# Altium schematic symbol library MCU_Microchip_SAME.SchLib: 16 symbols
Pins are listed as number, name and electrical type; pins without a type are passive.

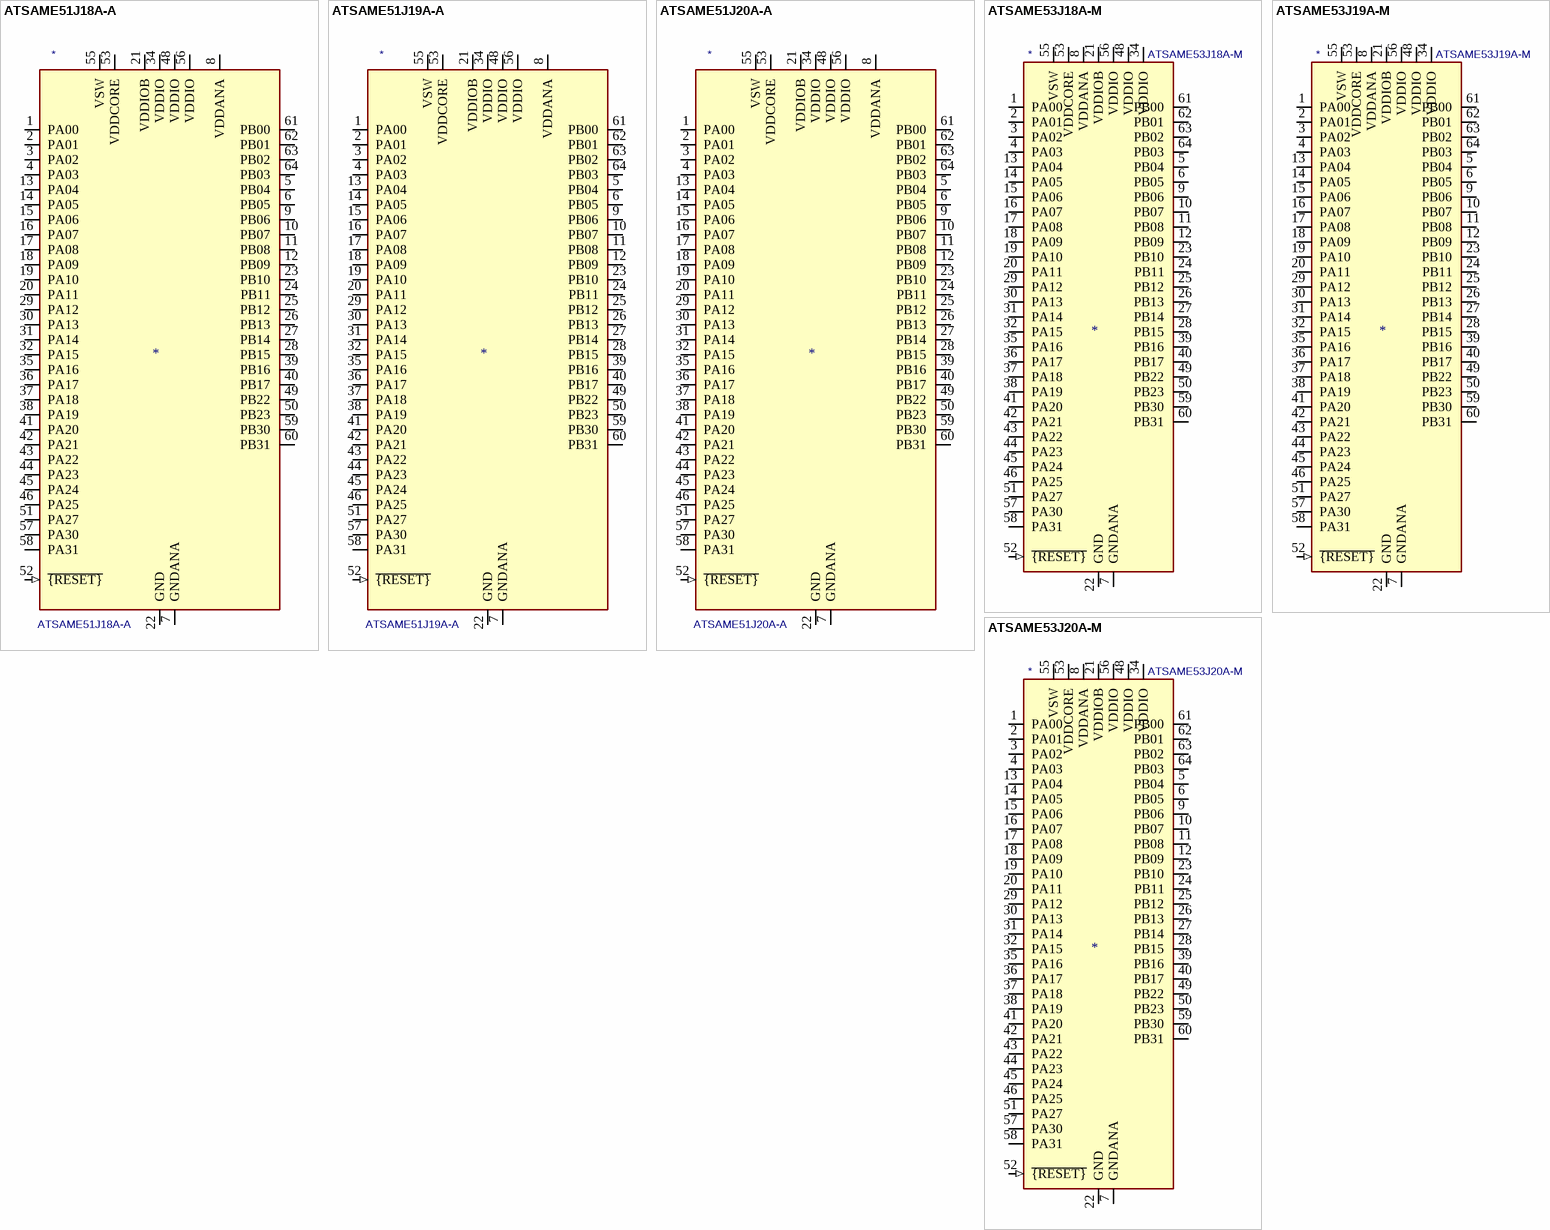
[diagram p0: symbols ATSAME51J18A-A to ATSAME53J20A-M]

## ATSAME51J18A-A
designator *  value ATSAME51J18A-A
ki_keywords: 32-bit ARM Cortex-M4F MCU Microcontroller; ki_description: SAM E51 Microchip SMART ARM Cortex-M4F-based MCU, 256K Flash, 128K SRAM, TQFP-64; ki_fp_filters: TQFP*10x10mm*P0.5mm*; Footprint: Package_QFP:TQFP-64_10x10mm_P0.5mm; Supplier: http://ww1.microchip.com/downloads/en/DeviceDoc/60001507E.pdf
footprint TQFP-64_10x10mm_P0.5mm
pins: 1 PA00 (io), 2 PA01 (io), 3 PA02 (io), 4 PA03 (io), 5 PB04 (io), 6 PB05 (io), 7 GNDANA (power), 8 VDDANA (power), 9 PB06 (io), 10 PB07 (io), 11 PB08 (io), 12 PB09 (io), 13 PA04 (io), 14 PA05 (io), 15 PA06 (io), 16 PA07 (io), 17 PA08 (io), 18 PA09 (io), 19 PA10 (io), 20 PA11 (io), 21 VDDIOB (power), 22 GND (power), 23 PB10 (io), 24 PB11 (io), 25 PB12 (io), 26 PB13 (io), 27 PB14 (io), 28 PB15 (io), 29 PA12 (io), 30 PA13 (io), 31 PA14 (io), 32 PA15 (io), 33 GND hidden, 34 VDDIO (power), 35 PA16 (io), 36 PA17 (io), 37 PA18 (io), 38 PA19 (io), 39 PB16 (io), 40 PB17 (io), 41 PA20 (io), 42 PA21 (io), 43 PA22 (io), 44 PA23 (io), 45 PA24 (io), 46 PA25 (io), 47 GND hidden, 48 VDDIO (power), 49 PB22 (io), 50 PB23 (io), 51 PA27 (io), 52 ~{{RESET}} (in), 53 VDDCORE (power), 54 GND hidden, 55 VSW (power), 56 VDDIO (power), 57 PA30 (io), 58 PA31 (io), 59 PB30 (io), 60 PB31 (io), 61 PB00 (io), 62 PB01 (io), 63 PB02 (io), 64 PB03 (io)

## ATSAME51J19A-A
designator *  value ATSAME51J19A-A
ki_keywords: 32-bit ARM Cortex-M4F MCU Microcontroller; ki_description: SAM E51 Microchip SMART ARM Cortex-M4F-based MCU, 512K Flash, 192K SRAM, TQFP-64; ki_fp_filters: TQFP*10x10mm*P0.5mm*; Footprint: Package_QFP:TQFP-64_10x10mm_P0.5mm; Supplier: http://ww1.microchip.com/downloads/en/DeviceDoc/60001507E.pdf
footprint TQFP-64_10x10mm_P0.5mm
pins: 1 PA00 (io), 2 PA01 (io), 3 PA02 (io), 4 PA03 (io), 5 PB04 (io), 6 PB05 (io), 7 GNDANA (power), 8 VDDANA (power), 9 PB06 (io), 10 PB07 (io), 11 PB08 (io), 12 PB09 (io), 13 PA04 (io), 14 PA05 (io), 15 PA06 (io), 16 PA07 (io), 17 PA08 (io), 18 PA09 (io), 19 PA10 (io), 20 PA11 (io), 21 VDDIOB (power), 22 GND (power), 23 PB10 (io), 24 PB11 (io), 25 PB12 (io), 26 PB13 (io), 27 PB14 (io), 28 PB15 (io), 29 PA12 (io), 30 PA13 (io), 31 PA14 (io), 32 PA15 (io), 33 GND hidden, 34 VDDIO (power), 35 PA16 (io), 36 PA17 (io), 37 PA18 (io), 38 PA19 (io), 39 PB16 (io), 40 PB17 (io), 41 PA20 (io), 42 PA21 (io), 43 PA22 (io), 44 PA23 (io), 45 PA24 (io), 46 PA25 (io), 47 GND hidden, 48 VDDIO (power), 49 PB22 (io), 50 PB23 (io), 51 PA27 (io), 52 ~{{RESET}} (in), 53 VDDCORE (power), 54 GND hidden, 55 VSW (power), 56 VDDIO (power), 57 PA30 (io), 58 PA31 (io), 59 PB30 (io), 60 PB31 (io), 61 PB00 (io), 62 PB01 (io), 63 PB02 (io), 64 PB03 (io)

## ATSAME51J20A-A
designator *  value ATSAME51J20A-A
ki_keywords: 32-bit ARM Cortex-M4F MCU Microcontroller; ki_description: SAM E51 Microchip SMART ARM Cortex-M4F-based MCU, 1024K Flash, 256K SRAM, TQFP-64; ki_fp_filters: TQFP*10x10mm*P0.5mm*; Footprint: Package_QFP:TQFP-64_10x10mm_P0.5mm; Supplier: http://ww1.microchip.com/downloads/en/DeviceDoc/60001507E.pdf
footprint TQFP-64_10x10mm_P0.5mm
pins: 1 PA00 (io), 2 PA01 (io), 3 PA02 (io), 4 PA03 (io), 5 PB04 (io), 6 PB05 (io), 7 GNDANA (power), 8 VDDANA (power), 9 PB06 (io), 10 PB07 (io), 11 PB08 (io), 12 PB09 (io), 13 PA04 (io), 14 PA05 (io), 15 PA06 (io), 16 PA07 (io), 17 PA08 (io), 18 PA09 (io), 19 PA10 (io), 20 PA11 (io), 21 VDDIOB (power), 22 GND (power), 23 PB10 (io), 24 PB11 (io), 25 PB12 (io), 26 PB13 (io), 27 PB14 (io), 28 PB15 (io), 29 PA12 (io), 30 PA13 (io), 31 PA14 (io), 32 PA15 (io), 33 GND hidden, 34 VDDIO (power), 35 PA16 (io), 36 PA17 (io), 37 PA18 (io), 38 PA19 (io), 39 PB16 (io), 40 PB17 (io), 41 PA20 (io), 42 PA21 (io), 43 PA22 (io), 44 PA23 (io), 45 PA24 (io), 46 PA25 (io), 47 GND hidden, 48 VDDIO (power), 49 PB22 (io), 50 PB23 (io), 51 PA27 (io), 52 ~{{RESET}} (in), 53 VDDCORE (power), 54 GND hidden, 55 VSW (power), 56 VDDIO (power), 57 PA30 (io), 58 PA31 (io), 59 PB30 (io), 60 PB31 (io), 61 PB00 (io), 62 PB01 (io), 63 PB02 (io), 64 PB03 (io)

## ATSAME53J18A-M
designator *  value ATSAME53J18A-M
ki_keywords: 32-bit ARM Cortex-M4F MCU Microcontroller; ki_description: SAM E53 Microchip SMART ARM Cortex-M4F based MCU, 256K Flash, 128K SRAM, QFN-64; ki_fp_filters: QFN*1EP*9x9mm*P0.5mm*; Footprint: Package_DFN_QFN:QFN-64-1EP_9x9mm_P0.5mm_EP4.7x4.7mm; Supplier: http://ww1.microchip.com/downloads/en/DeviceDoc/60001507E.pdf
footprint QFN-64-1EP_9x9mm_P0.5mm_EP4.7x4.7mm
pins: 1 PA00 (io), 2 PA01 (io), 3 PA02 (io), 4 PA03 (io), 5 PB04 (io), 6 PB05 (io), 7 GNDANA (power), 8 VDDANA (power), 9 PB06 (io), 10 PB07 (io), 11 PB08 (io), 12 PB09 (io), 13 PA04 (io), 14 PA05 (io), 15 PA06 (io), 16 PA07 (io), 17 PA08 (io), 18 PA09 (io), 19 PA10 (io), 20 PA11 (io), 21 VDDIOB (power), 22 GND (power), 23 PB10 (io), 24 PB11 (io), 25 PB12 (io), 26 PB13 (io), 27 PB14 (io), 28 PB15 (io), 29 PA12 (io), 30 PA13 (io), 31 PA14 (io), 32 PA15 (io), 33 GND hidden, 34 VDDIO (power), 35 PA16 (io), 36 PA17 (io), 37 PA18 (io), 38 PA19 (io), 39 PB16 (io), 40 PB17 (io), 41 PA20 (io), 42 PA21 (io), 43 PA22 (io), 44 PA23 (io), 45 PA24 (io), 46 PA25 (io), 47 GND hidden, 48 VDDIO (power), 49 PB22 (io), 50 PB23 (io), 51 PA27 (io), 52 ~{{RESET}} (in), 53 VDDCORE (power), 54 GND hidden, 55 VSW (power), 56 VDDIO (power), 57 PA30 (io), 58 PA31 (io), 59 PB30 (io), 60 PB31 (io), 61 PB00 (io), 62 PB01 (io), 63 PB02 (io), 64 PB03 (io), 65 GND hidden

## ATSAME53J19A-M
designator *  value ATSAME53J19A-M
ki_keywords: 32-bit ARM Cortex-M4F MCU Microcontroller; ki_description: SAM E53 Microchip SMART ARM Cortex-M4F based MCU, 512K Flash, 128K SRAM, QFN-64; ki_fp_filters: QFN*1EP*9x9mm*P0.5mm*; Footprint: Package_DFN_QFN:QFN-64-1EP_9x9mm_P0.5mm_EP4.7x4.7mm; Supplier: http://ww1.microchip.com/downloads/en/DeviceDoc/60001507E.pdf
footprint QFN-64-1EP_9x9mm_P0.5mm_EP4.7x4.7mm
pins: 1 PA00 (io), 2 PA01 (io), 3 PA02 (io), 4 PA03 (io), 5 PB04 (io), 6 PB05 (io), 7 GNDANA (power), 8 VDDANA (power), 9 PB06 (io), 10 PB07 (io), 11 PB08 (io), 12 PB09 (io), 13 PA04 (io), 14 PA05 (io), 15 PA06 (io), 16 PA07 (io), 17 PA08 (io), 18 PA09 (io), 19 PA10 (io), 20 PA11 (io), 21 VDDIOB (power), 22 GND (power), 23 PB10 (io), 24 PB11 (io), 25 PB12 (io), 26 PB13 (io), 27 PB14 (io), 28 PB15 (io), 29 PA12 (io), 30 PA13 (io), 31 PA14 (io), 32 PA15 (io), 33 GND hidden, 34 VDDIO (power), 35 PA16 (io), 36 PA17 (io), 37 PA18 (io), 38 PA19 (io), 39 PB16 (io), 40 PB17 (io), 41 PA20 (io), 42 PA21 (io), 43 PA22 (io), 44 PA23 (io), 45 PA24 (io), 46 PA25 (io), 47 GND hidden, 48 VDDIO (power), 49 PB22 (io), 50 PB23 (io), 51 PA27 (io), 52 ~{{RESET}} (in), 53 VDDCORE (power), 54 GND hidden, 55 VSW (power), 56 VDDIO (power), 57 PA30 (io), 58 PA31 (io), 59 PB30 (io), 60 PB31 (io), 61 PB00 (io), 62 PB01 (io), 63 PB02 (io), 64 PB03 (io), 65 GND hidden

## ATSAME53J20A-M
designator *  value ATSAME53J20A-M
ki_keywords: 32-bit ARM Cortex-M4F MCU Microcontroller; ki_description: SAM E53 Microchip SMART ARM Cortex-M4F based MCU, 1024K Flash, 128K SRAM, QFN-64; ki_fp_filters: QFN*1EP*9x9mm*P0.5mm*; Footprint: Package_DFN_QFN:QFN-64-1EP_9x9mm_P0.5mm_EP4.7x4.7mm; Supplier: http://ww1.microchip.com/downloads/en/DeviceDoc/60001507E.pdf
footprint QFN-64-1EP_9x9mm_P0.5mm_EP4.7x4.7mm
pins: 1 PA00 (io), 2 PA01 (io), 3 PA02 (io), 4 PA03 (io), 5 PB04 (io), 6 PB05 (io), 7 GNDANA (power), 8 VDDANA (power), 9 PB06 (io), 10 PB07 (io), 11 PB08 (io), 12 PB09 (io), 13 PA04 (io), 14 PA05 (io), 15 PA06 (io), 16 PA07 (io), 17 PA08 (io), 18 PA09 (io), 19 PA10 (io), 20 PA11 (io), 21 VDDIOB (power), 22 GND (power), 23 PB10 (io), 24 PB11 (io), 25 PB12 (io), 26 PB13 (io), 27 PB14 (io), 28 PB15 (io), 29 PA12 (io), 30 PA13 (io), 31 PA14 (io), 32 PA15 (io), 33 GND hidden, 34 VDDIO (power), 35 PA16 (io), 36 PA17 (io), 37 PA18 (io), 38 PA19 (io), 39 PB16 (io), 40 PB17 (io), 41 PA20 (io), 42 PA21 (io), 43 PA22 (io), 44 PA23 (io), 45 PA24 (io), 46 PA25 (io), 47 GND hidden, 48 VDDIO (power), 49 PB22 (io), 50 PB23 (io), 51 PA27 (io), 52 ~{{RESET}} (in), 53 VDDCORE (power), 54 GND hidden, 55 VSW (power), 56 VDDIO (power), 57 PA30 (io), 58 PA31 (io), 59 PB30 (io), 60 PB31 (io), 61 PB00 (io), 62 PB01 (io), 63 PB02 (io), 64 PB03 (io), 65 GND hidden

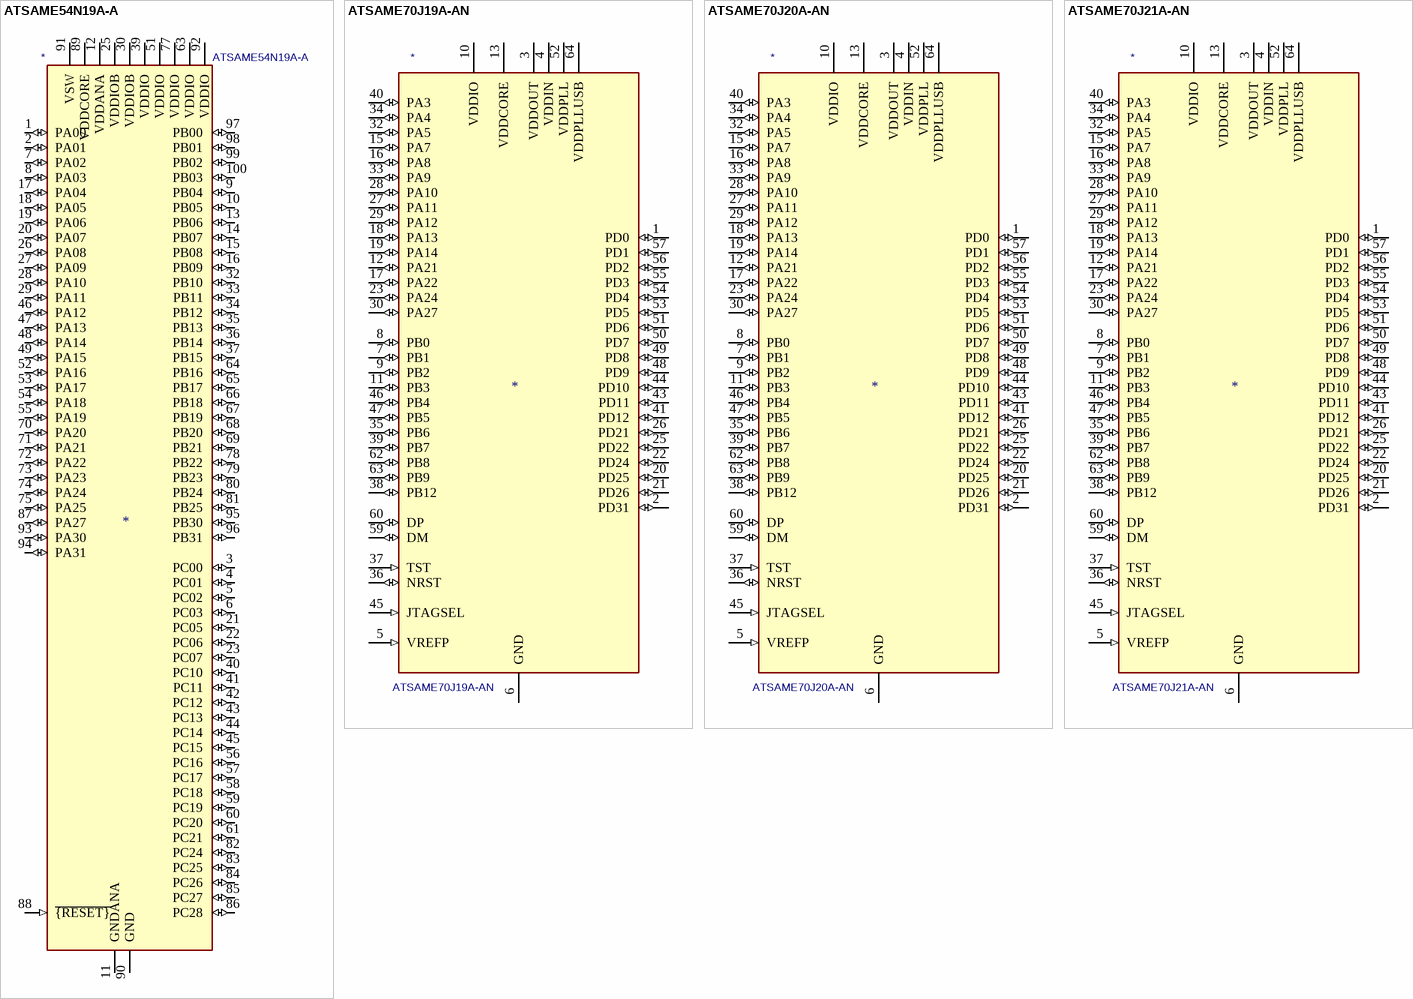
[diagram p1: symbols ATSAME54N19A-A to ATSAME70J21A-AN]

## ATSAME54N19A-A
designator *  value ATSAME54N19A-A
ki_keywords: 32-bit ARM Cortex-M4F MCU Microcontroller; ki_description: SAM E54 Microchip SMART ARM Cortex-M4F based MCU, 512K Flash, 192K SRAM, TQFP-100; ki_fp_filters: TQFP*14x14mm*P0.5mm*; Footprint: Package_QFP:TQFP-100_14x14mm_P0.5mm; Supplier: http://ww1.microchip.com/downloads/en/DeviceDoc/60001507E.pdf
footprint TQFP-100_14x14mm_P0.5mm
pins: 1 PA00 (io), 2 PA01 (io), 3 PC00 (io), 4 PC01 (io), 5 PC02 (io), 6 PC03 (io), 7 PA02 (io), 8 PA03 (io), 9 PB04 (io), 10 PB05 (io), 11 GNDANA (power), 12 VDDANA (power), 13 PB06 (io), 14 PB07 (io), 15 PB08 (io), 16 PB09 (io), 17 PA04 (io), 18 PA05 (io), 19 PA06 (io), 20 PA07 (io), 21 PC05 (io), 22 PC06 (io), 23 PC07 (io), 24 GND hidden, 25 VDDIOB (power), 26 PA08 (io), 27 PA09 (io), 28 PA10 (io), 29 PA11 (io), 30 VDDIOB (power), 31 GND hidden, 32 PB10 (io), 33 PB11 (io), 34 PB12 (io), 35 PB13 (io), 36 PB14 (io), 37 PB15 (io), 38 GND hidden, 39 VDDIO (power), 40 PC10 (io), 41 PC11 (io), 42 PC12 (io), 43 PC13 (io), 44 PC14 (io), 45 PC15 (io), 46 PA12 (io), 47 PA13 (io), 48 PA14 (io), 49 PA15 (io), 50 GND hidden, 51 VDDIO (power), 52 PA16 (io), 53 PA17 (io), 54 PA18 (io), 55 PA19 (io), 56 PC16 (io), 57 PC17 (io), 58 PC18 (io), 59 PC19 (io), 60 PC20 (io), 61 PC21 (io), 62 GND hidden, 63 VDDIO (power), 64 PB16 (io), 65 PB17 (io), 66 PB18 (io), 67 PB19 (io), 68 PB20 (io), 69 PB21 (io), 70 PA20 (io), 71 PA21 (io), 72 PA22 (io), 73 PA23 (io), 74 PA24 (io), 75 PA25 (io), 76 GND hidden, 77 VDDIO (power), 78 PB22 (io), 79 PB23 (io), 80 PB24 (io), 81 PB25 (io), 82 PC24 (io), 83 PC25 (io), 84 PC26 (io), 85 PC27 (io), 86 PC28 (io), 87 PA27 (io), 88 ~{{RESET}} (in), 89 VDDCORE (power), 90 GND (power), 91 VSW (power), 92 VDDIO (power), 93 PA30 (io), 94 PA31 (io), 95 PB30 (io), 96 PB31 (io), 97 PB00 (io), 98 PB01 (io), 99 PB02 (io), 100 PB03 (io)

## ATSAME70J19A-AN
designator *  value ATSAME70J19A-AN
ki_keywords: 32-bit ARM Cortex-M7 MCU Microcontroller; ki_description: SAM E70 Microchip SMART ARM Cortex-M7-based MCU, 2048K Flash, 384K SRAM, LQFP64; ki_fp_filters: LQFP*10x10mm*P0.5mm*; Footprint: Package_QFP:LQFP-64_10x10mm_P0.5mm; Supplier: http://ww1.microchip.com/downloads/en/DeviceDoc/SAM-E70-S70-V70-V71-Family-Data-Sheet-DS60001527D.pdf
footprint LQFP-64_10x10mm_P0.5mm
pins: 1 PD0 (io), 2 PD31 (io), 3 VDDOUT (power), 4 VDDIN (power), 5 VREFP (in), 6 GND (power), 7 PB1 (io), 8 PB0 (io), 9 PB2 (io), 10 VDDIO (power), 11 PB3 (io), 12 PA21 (io), 13 VDDCORE (power), 14 GND hidden, 15 PA7 (io), 16 PA8 (io), 17 PA22 (io), 18 PA13 (io), 19 PA14 (io), 20 PD25 (io), 21 PD26 (io), 22 PD24 (io), 23 PA24 (io), 24 VDDCORE hidden, 25 PD22 (io), 26 PD21 (io), 27 PA11 (io), 28 PA10 (io), 29 PA12 (io), 30 PA27 (io), 31 GND hidden, 32 PA5 (io), 33 PA9 (io), 34 PA4 (io), 35 PB6 (io), 36 NRST (io), 37 TST (in), 38 PB12 (io), 39 PB7 (io), 40 PA3 (io), 41 PD12 (io), 42 VDDIO hidden, 43 PD11 (io), 44 PD10 (io), 45 JTAGSEL (in), 46 PB4 (io), 47 PB5 (io), 48 PD9 (io), 49 PD8 (io), 50 PD7 (io), 51 PD6 (io), 52 VDDPLL (power), 53 PD5 (io), 54 PD4 (io), 55 PD3 (io), 56 PD2 (io), 57 PD1 (io), 58 VDDIO hidden, 59 DM (io), 60 DP (io), 61 VDDCORE hidden, 62 PB8 (io), 63 PB9 (io), 64 VDDPLLUSB (power)

## ATSAME70J20A-AN
designator *  value ATSAME70J20A-AN
ki_keywords: 32-bit ARM Cortex-M7 MCU Microcontroller; ki_description: SAM E70 Microchip SMART ARM Cortex-M7-based MCU, 512K Flash, 384K SRAM, LQFP64; ki_fp_filters: LQFP*10x10mm*P0.5mm*; Footprint: Package_QFP:LQFP-64_10x10mm_P0.5mm; Supplier: http://ww1.microchip.com/downloads/en/DeviceDoc/SAM-E70-S70-V70-V71-Family-Data-Sheet-DS60001527D.pdf
footprint LQFP-64_10x10mm_P0.5mm
pins: 1 PD0 (io), 2 PD31 (io), 3 VDDOUT (power), 4 VDDIN (power), 5 VREFP (in), 6 GND (power), 7 PB1 (io), 8 PB0 (io), 9 PB2 (io), 10 VDDIO (power), 11 PB3 (io), 12 PA21 (io), 13 VDDCORE (power), 14 GND hidden, 15 PA7 (io), 16 PA8 (io), 17 PA22 (io), 18 PA13 (io), 19 PA14 (io), 20 PD25 (io), 21 PD26 (io), 22 PD24 (io), 23 PA24 (io), 24 VDDCORE hidden, 25 PD22 (io), 26 PD21 (io), 27 PA11 (io), 28 PA10 (io), 29 PA12 (io), 30 PA27 (io), 31 GND hidden, 32 PA5 (io), 33 PA9 (io), 34 PA4 (io), 35 PB6 (io), 36 NRST (io), 37 TST (in), 38 PB12 (io), 39 PB7 (io), 40 PA3 (io), 41 PD12 (io), 42 VDDIO hidden, 43 PD11 (io), 44 PD10 (io), 45 JTAGSEL (in), 46 PB4 (io), 47 PB5 (io), 48 PD9 (io), 49 PD8 (io), 50 PD7 (io), 51 PD6 (io), 52 VDDPLL (power), 53 PD5 (io), 54 PD4 (io), 55 PD3 (io), 56 PD2 (io), 57 PD1 (io), 58 VDDIO hidden, 59 DM (io), 60 DP (io), 61 VDDCORE hidden, 62 PB8 (io), 63 PB9 (io), 64 VDDPLLUSB (power)

## ATSAME70J21A-AN
designator *  value ATSAME70J21A-AN
ki_keywords: 32-bit ARM Cortex-M7 MCU Microcontroller; ki_description: SAM E70 Microchip SMART ARM Cortex-M7-based MCU, 2048K Flash, 384K SRAM, LQFP64; ki_fp_filters: LQFP*10x10mm*P0.5mm*; Footprint: Package_QFP:LQFP-64_10x10mm_P0.5mm; Supplier: http://ww1.microchip.com/downloads/en/DeviceDoc/SAM-E70-S70-V70-V71-Family-Data-Sheet-DS60001527D.pdf
footprint LQFP-64_10x10mm_P0.5mm
pins: 1 PD0 (io), 2 PD31 (io), 3 VDDOUT (power), 4 VDDIN (power), 5 VREFP (in), 6 GND (power), 7 PB1 (io), 8 PB0 (io), 9 PB2 (io), 10 VDDIO (power), 11 PB3 (io), 12 PA21 (io), 13 VDDCORE (power), 14 GND hidden, 15 PA7 (io), 16 PA8 (io), 17 PA22 (io), 18 PA13 (io), 19 PA14 (io), 20 PD25 (io), 21 PD26 (io), 22 PD24 (io), 23 PA24 (io), 24 VDDCORE hidden, 25 PD22 (io), 26 PD21 (io), 27 PA11 (io), 28 PA10 (io), 29 PA12 (io), 30 PA27 (io), 31 GND hidden, 32 PA5 (io), 33 PA9 (io), 34 PA4 (io), 35 PB6 (io), 36 NRST (io), 37 TST (in), 38 PB12 (io), 39 PB7 (io), 40 PA3 (io), 41 PD12 (io), 42 VDDIO hidden, 43 PD11 (io), 44 PD10 (io), 45 JTAGSEL (in), 46 PB4 (io), 47 PB5 (io), 48 PD9 (io), 49 PD8 (io), 50 PD7 (io), 51 PD6 (io), 52 VDDPLL (power), 53 PD5 (io), 54 PD4 (io), 55 PD3 (io), 56 PD2 (io), 57 PD1 (io), 58 VDDIO hidden, 59 DM (io), 60 DP (io), 61 VDDCORE hidden, 62 PB8 (io), 63 PB9 (io), 64 VDDPLLUSB (power)

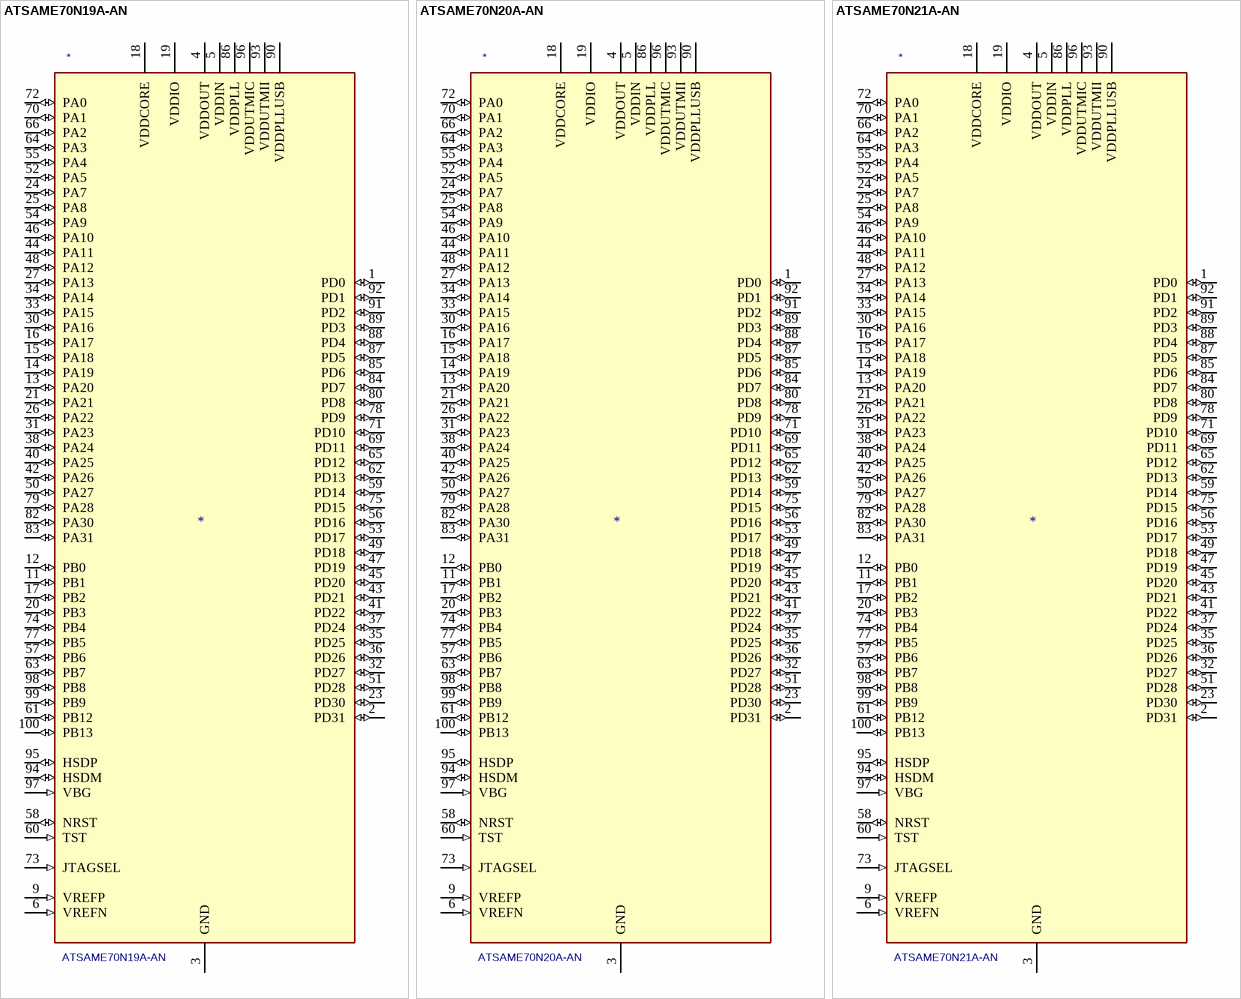
[diagram p2: symbols ATSAME70N19A-AN to ATSAME70N21A-AN]

## ATSAME70N19A-AN
designator *  value ATSAME70N19A-AN
ki_keywords: 32-bit ARM Cortex-M7 MCU Microcontroller; ki_description: SAM E70 Microchip SMART ARM Cortex-M7-based MCU, 512K Flash, 256K SRAM, LQFP100; ki_fp_filters: LQFP*14x14mm*P0.5mm*; Footprint: Package_QFP:LQFP-100_14x14mm_P0.5mm; Supplier: http://ww1.microchip.com/downloads/en/DeviceDoc/SAM-E70-S70-V70-V71-Family-Data-Sheet-DS60001527D.pdf
footprint LQFP-100_14x14mm_P0.5mm
pins: 1 PD0 (io), 2 PD31 (io), 3 GND (power), 4 VDDOUT (power), 5 VDDIN (power), 6 VREFN (in), 7 GND hidden, 8 GND hidden, 9 VREFP (in), 10 GND hidden, 11 PB1 (io), 12 PB0 (io), 13 PA20 (io), 14 PA19 (io), 15 PA18 (io), 16 PA17 (io), 17 PB2 (io), 18 VDDCORE (power), 19 VDDIO (power), 20 PB3 (io), 21 PA21 (io), 22 VDDCORE hidden, 23 PD30 (io), 24 PA7 (io), 25 PA8 (io), 26 PA22 (io), 27 PA13 (io), 28 VDDIO hidden, 29 GND hidden, 30 PA16 (io), 31 PA23 (io), 32 PD27 (io), 33 PA15 (io), 34 PA14 (io), 35 PD25 (io), 36 PD26 (io), 37 PD24 (io), 38 PA24 (io), 39 VDDCORE hidden, 40 PA25 (io), 41 PD22 (io), 42 PA26 (io), 43 PD21 (io), 44 PA11 (io), 45 PD20 (io), 46 PA10 (io), 47 PD19 (io), 48 PA12 (io), 49 PD18 (io), 50 PA27 (io), 51 PD28 (io), 52 PA5 (io), 53 PD17 (io), 54 PA9 (io), 55 PA4 (io), 56 PD16 (io), 57 PB6 (io), 58 NRST (io), 59 PD14 (io), 60 TST (in), 61 PB12 (io), 62 PD13 (io), 63 PB7 (io), 64 PA3 (io), 65 PD12 (io), 66 PA2 (io), 67 GND hidden, 68 VDDIO hidden, 69 PD11 (io), 70 PA1 (io), 71 PD10 (io), 72 PA0 (io), 73 JTAGSEL (in), 74 PB4 (io), 75 PD15 (io), 76 VDDCORE hidden, 77 PB5 (io), 78 PD9 (io), 79 PA28 (io), 80 PD8 (io), 81 VDDIO hidden, 82 PA30 (io), 83 PA31 (io), 84 PD7 (io), 85 PD6 (io), 86 VDDPLL (power), 87 PD5 (io), 88 PD4 (io), 89 PD3 (io), 90 VDDPLLUSB (power), 91 PD2 (io), 92 PD1 (io), 93 VDDUTMII (power), 94 HSDM (io), 95 HSDP (io), 96 VDDUTMIC (power), 97 VBG (in), 98 PB8 (io), 99 PB9 (io), 100 PB13 (io)

## ATSAME70N20A-AN
designator *  value ATSAME70N20A-AN
ki_keywords: 32-bit ARM Cortex-M7 MCU Microcontroller; ki_description: SAM E70 Microchip SMART ARM Cortex-M7-based MCU, 1024K Flash, 384K SRAM, LQFP100; ki_fp_filters: LQFP*14x14mm*P0.5mm*; Footprint: Package_QFP:LQFP-100_14x14mm_P0.5mm; Supplier: http://ww1.microchip.com/downloads/en/DeviceDoc/SAM-E70-S70-V70-V71-Family-Data-Sheet-DS60001527D.pdf
footprint LQFP-100_14x14mm_P0.5mm
pins: 1 PD0 (io), 2 PD31 (io), 3 GND (power), 4 VDDOUT (power), 5 VDDIN (power), 6 VREFN (in), 7 GND hidden, 8 GND hidden, 9 VREFP (in), 10 GND hidden, 11 PB1 (io), 12 PB0 (io), 13 PA20 (io), 14 PA19 (io), 15 PA18 (io), 16 PA17 (io), 17 PB2 (io), 18 VDDCORE (power), 19 VDDIO (power), 20 PB3 (io), 21 PA21 (io), 22 VDDCORE hidden, 23 PD30 (io), 24 PA7 (io), 25 PA8 (io), 26 PA22 (io), 27 PA13 (io), 28 VDDIO hidden, 29 GND hidden, 30 PA16 (io), 31 PA23 (io), 32 PD27 (io), 33 PA15 (io), 34 PA14 (io), 35 PD25 (io), 36 PD26 (io), 37 PD24 (io), 38 PA24 (io), 39 VDDCORE hidden, 40 PA25 (io), 41 PD22 (io), 42 PA26 (io), 43 PD21 (io), 44 PA11 (io), 45 PD20 (io), 46 PA10 (io), 47 PD19 (io), 48 PA12 (io), 49 PD18 (io), 50 PA27 (io), 51 PD28 (io), 52 PA5 (io), 53 PD17 (io), 54 PA9 (io), 55 PA4 (io), 56 PD16 (io), 57 PB6 (io), 58 NRST (io), 59 PD14 (io), 60 TST (in), 61 PB12 (io), 62 PD13 (io), 63 PB7 (io), 64 PA3 (io), 65 PD12 (io), 66 PA2 (io), 67 GND hidden, 68 VDDIO hidden, 69 PD11 (io), 70 PA1 (io), 71 PD10 (io), 72 PA0 (io), 73 JTAGSEL (in), 74 PB4 (io), 75 PD15 (io), 76 VDDCORE hidden, 77 PB5 (io), 78 PD9 (io), 79 PA28 (io), 80 PD8 (io), 81 VDDIO hidden, 82 PA30 (io), 83 PA31 (io), 84 PD7 (io), 85 PD6 (io), 86 VDDPLL (power), 87 PD5 (io), 88 PD4 (io), 89 PD3 (io), 90 VDDPLLUSB (power), 91 PD2 (io), 92 PD1 (io), 93 VDDUTMII (power), 94 HSDM (io), 95 HSDP (io), 96 VDDUTMIC (power), 97 VBG (in), 98 PB8 (io), 99 PB9 (io), 100 PB13 (io)

## ATSAME70N21A-AN
designator *  value ATSAME70N21A-AN
ki_keywords: 32-bit ARM Cortex-M7 MCU Microcontroller; ki_description: SAM E70 Microchip SMART ARM Cortex-M7-based MCU, 2048K Flash, 384K SRAM, LQFP100; ki_fp_filters: LQFP*14x14mm*P0.5mm*; Footprint: Package_QFP:LQFP-100_14x14mm_P0.5mm; Supplier: http://ww1.microchip.com/downloads/en/DeviceDoc/SAM-E70-S70-V70-V71-Family-Data-Sheet-DS60001527D.pdf
footprint LQFP-100_14x14mm_P0.5mm
pins: 1 PD0 (io), 2 PD31 (io), 3 GND (power), 4 VDDOUT (power), 5 VDDIN (power), 6 VREFN (in), 7 GND hidden, 8 GND hidden, 9 VREFP (in), 10 GND hidden, 11 PB1 (io), 12 PB0 (io), 13 PA20 (io), 14 PA19 (io), 15 PA18 (io), 16 PA17 (io), 17 PB2 (io), 18 VDDCORE (power), 19 VDDIO (power), 20 PB3 (io), 21 PA21 (io), 22 VDDCORE hidden, 23 PD30 (io), 24 PA7 (io), 25 PA8 (io), 26 PA22 (io), 27 PA13 (io), 28 VDDIO hidden, 29 GND hidden, 30 PA16 (io), 31 PA23 (io), 32 PD27 (io), 33 PA15 (io), 34 PA14 (io), 35 PD25 (io), 36 PD26 (io), 37 PD24 (io), 38 PA24 (io), 39 VDDCORE hidden, 40 PA25 (io), 41 PD22 (io), 42 PA26 (io), 43 PD21 (io), 44 PA11 (io), 45 PD20 (io), 46 PA10 (io), 47 PD19 (io), 48 PA12 (io), 49 PD18 (io), 50 PA27 (io), 51 PD28 (io), 52 PA5 (io), 53 PD17 (io), 54 PA9 (io), 55 PA4 (io), 56 PD16 (io), 57 PB6 (io), 58 NRST (io), 59 PD14 (io), 60 TST (in), 61 PB12 (io), 62 PD13 (io), 63 PB7 (io), 64 PA3 (io), 65 PD12 (io), 66 PA2 (io), 67 GND hidden, 68 VDDIO hidden, 69 PD11 (io), 70 PA1 (io), 71 PD10 (io), 72 PA0 (io), 73 JTAGSEL (in), 74 PB4 (io), 75 PD15 (io), 76 VDDCORE hidden, 77 PB5 (io), 78 PD9 (io), 79 PA28 (io), 80 PD8 (io), 81 VDDIO hidden, 82 PA30 (io), 83 PA31 (io), 84 PD7 (io), 85 PD6 (io), 86 VDDPLL (power), 87 PD5 (io), 88 PD4 (io), 89 PD3 (io), 90 VDDPLLUSB (power), 91 PD2 (io), 92 PD1 (io), 93 VDDUTMII (power), 94 HSDM (io), 95 HSDP (io), 96 VDDUTMIC (power), 97 VBG (in), 98 PB8 (io), 99 PB9 (io), 100 PB13 (io)

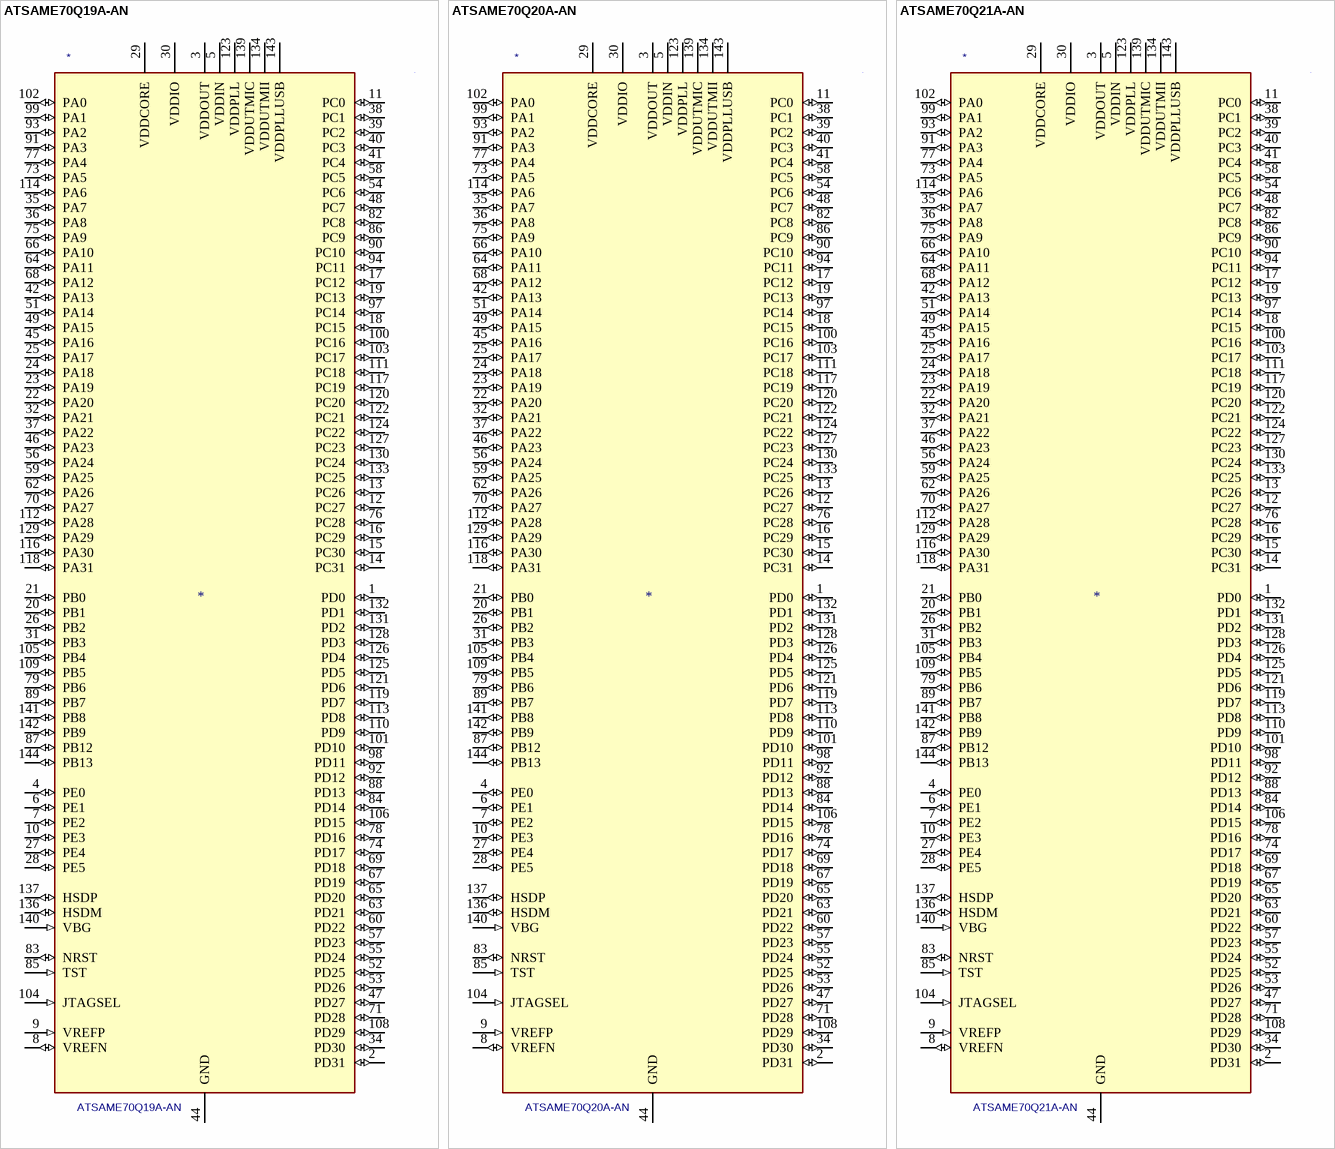
[diagram p3: symbols ATSAME70Q19A-AN to ATSAME70Q21A-AN]

## ATSAME70Q19A-AN
designator *  value ATSAME70Q19A-AN
ki_keywords: 32-bit ARM Cortex-M7 MCU Microcontroller; ki_description: SAM E70 Microchip SMART ARM Cortex-M7-based MCU, 512K Flash, 256K SRAM, LQFP144; ki_fp_filters: LQFP*20x20mm*P0.5mm*; Footprint: Package_QFP:LQFP-144_20x20mm_P0.5mm; Supplier: http://ww1.microchip.com/downloads/en/DeviceDoc/SAM-E70-S70-V70-V71-Family-Data-Sheet-DS60001527D.pdf
footprint LQFP-144_20x20mm_P0.5mm
pins: 1 PD0 (io), 2 PD31 (io), 3 VDDOUT (power), 4 PE0 (io), 5 VDDIN (power), 6 PE1 (io), 7 PE2 (io), 8 VREFN (io), 9 VREFP (in), 10 PE3 (io), 11 PC0 (io), 12 PC27 (io), 13 PC26 (io), 14 PC31 (io), 15 PC30 (io), 16 PC29 (io), 17 PC12 (io), 18 PC15 (io), 19 PC13 (io), 20 PB1 (io), 21 PB0 (io), 22 PA20 (io), 23 PA19 (io), 24 PA18 (io), 25 PA17 (io), 26 PB2 (io), 27 PE4 (io), 28 PE5 (io), 29 VDDCORE (power), 30 VDDIO (power), 31 PB3 (io), 32 PA21 (io), 33 VDDCORE hidden, 34 PD30 (io), 35 PA7 (io), 36 PA8 (io), 37 PA22 (io), 38 PC1 (io), 39 PC2 (io), 40 PC3 (io), 41 PC4 (io), 42 PA13 (io), 43 VDDIO hidden, 44 GND (power), 45 PA16 (io), 46 PA23 (io), 47 PD27 (io), 48 PC7 (io), 49 PA15 (io), 50 VDDCORE hidden, 51 PA14 (io), 52 PD25 (io), 53 PD26 (io), 54 PC6 (io), 55 PD24 (io), 56 PA24 (io), 57 PD23 (io), 58 PC5 (io), 59 PA25 (io), 60 PD22 (io), 61 GND hidden, 62 PA26 (io), 63 PD21 (io), 64 PA11 (io), 65 PD20 (io), 66 PA10 (io), 67 PD19 (io), 68 PA12 (io), 69 PD18 (io), 70 PA27 (io), 71 PD28 (io), 72 VDDIO hidden, 73 PA5 (io), 74 PD17 (io), 75 PA9 (io), 76 PC28 (io), 77 PA4 (io), 78 PD16 (io), 79 PB6 (io), 80 VDDIO hidden, 81 VDDCORE hidden, 82 PC8 (io), 83 NRST (io), 84 PD14 (io), 85 TST (in), 86 PC9 (io), 87 PB12 (io), 88 PD13 (io), 89 PB7 (io), 90 PC10 (io), 91 PA3 (io), 92 PD12 (io), 93 PA2 (io), 94 PC11 (io), 95 GND hidden, 96 VDDIO hidden, 97 PC14 (io), 98 PD11 (io), 99 PA1 (io), 100 PC16 (io), 101 PD10 (io), 102 PA0 (io), 103 PC17 (io), 104 JTAGSEL (in), 105 PB4 (io), 106 PD15 (io), 107 VDDCORE hidden, 108 PD29 (io), 109 PB5 (io), 110 PD9 (io), 111 PC18 (io), 112 PA28 (io), 113 PD8 (io), 114 PA6 (io), 115 GND hidden, 116 PA30 (io), 117 PC19 (io), 118 PA31 (io), 119 PD7 (io), 120 PC20 (io), 121 PD6 (io), 122 PC21 (io), 123 VDDPLL (power), 124 PC22 (io), 125 PD5 (io), 126 PD4 (io), 127 PC23 (io), 128 PD3 (io), 129 PA29 (io), 130 PC24 (io), 131 PD2 (io), 132 PD1 (io), 133 PC25 (io), 134 VDDUTMII (power), 135 GND hidden, 136 HSDM (io), 137 HSDP (io), 138 GND hidden, 139 VDDUTMIC (power), 140 VBG (in), 141 PB8 (io), 142 PB9 (io), 143 VDDPLLUSB (power), 144 PB13 (io)

## ATSAME70Q20A-AN
designator *  value ATSAME70Q20A-AN
ki_keywords: 32-bit ARM Cortex-M7 MCU Microcontroller; ki_description: SAM E70 Microchip SMART ARM Cortex-M7-based MCU, 1024K Flash, 384K SRAM, LQFP144; ki_fp_filters: LQFP*20x20mm*P0.5mm*; Footprint: Package_QFP:LQFP-144_20x20mm_P0.5mm; Supplier: http://ww1.microchip.com/downloads/en/DeviceDoc/SAM-E70-S70-V70-V71-Family-Data-Sheet-DS60001527D.pdf
footprint LQFP-144_20x20mm_P0.5mm
pins: 1 PD0 (io), 2 PD31 (io), 3 VDDOUT (power), 4 PE0 (io), 5 VDDIN (power), 6 PE1 (io), 7 PE2 (io), 8 VREFN (io), 9 VREFP (in), 10 PE3 (io), 11 PC0 (io), 12 PC27 (io), 13 PC26 (io), 14 PC31 (io), 15 PC30 (io), 16 PC29 (io), 17 PC12 (io), 18 PC15 (io), 19 PC13 (io), 20 PB1 (io), 21 PB0 (io), 22 PA20 (io), 23 PA19 (io), 24 PA18 (io), 25 PA17 (io), 26 PB2 (io), 27 PE4 (io), 28 PE5 (io), 29 VDDCORE (power), 30 VDDIO (power), 31 PB3 (io), 32 PA21 (io), 33 VDDCORE hidden, 34 PD30 (io), 35 PA7 (io), 36 PA8 (io), 37 PA22 (io), 38 PC1 (io), 39 PC2 (io), 40 PC3 (io), 41 PC4 (io), 42 PA13 (io), 43 VDDIO hidden, 44 GND (power), 45 PA16 (io), 46 PA23 (io), 47 PD27 (io), 48 PC7 (io), 49 PA15 (io), 50 VDDCORE hidden, 51 PA14 (io), 52 PD25 (io), 53 PD26 (io), 54 PC6 (io), 55 PD24 (io), 56 PA24 (io), 57 PD23 (io), 58 PC5 (io), 59 PA25 (io), 60 PD22 (io), 61 GND hidden, 62 PA26 (io), 63 PD21 (io), 64 PA11 (io), 65 PD20 (io), 66 PA10 (io), 67 PD19 (io), 68 PA12 (io), 69 PD18 (io), 70 PA27 (io), 71 PD28 (io), 72 VDDIO hidden, 73 PA5 (io), 74 PD17 (io), 75 PA9 (io), 76 PC28 (io), 77 PA4 (io), 78 PD16 (io), 79 PB6 (io), 80 VDDIO hidden, 81 VDDCORE hidden, 82 PC8 (io), 83 NRST (io), 84 PD14 (io), 85 TST (in), 86 PC9 (io), 87 PB12 (io), 88 PD13 (io), 89 PB7 (io), 90 PC10 (io), 91 PA3 (io), 92 PD12 (io), 93 PA2 (io), 94 PC11 (io), 95 GND hidden, 96 VDDIO hidden, 97 PC14 (io), 98 PD11 (io), 99 PA1 (io), 100 PC16 (io), 101 PD10 (io), 102 PA0 (io), 103 PC17 (io), 104 JTAGSEL (in), 105 PB4 (io), 106 PD15 (io), 107 VDDCORE hidden, 108 PD29 (io), 109 PB5 (io), 110 PD9 (io), 111 PC18 (io), 112 PA28 (io), 113 PD8 (io), 114 PA6 (io), 115 GND hidden, 116 PA30 (io), 117 PC19 (io), 118 PA31 (io), 119 PD7 (io), 120 PC20 (io), 121 PD6 (io), 122 PC21 (io), 123 VDDPLL (power), 124 PC22 (io), 125 PD5 (io), 126 PD4 (io), 127 PC23 (io), 128 PD3 (io), 129 PA29 (io), 130 PC24 (io), 131 PD2 (io), 132 PD1 (io), 133 PC25 (io), 134 VDDUTMII (power), 135 GND hidden, 136 HSDM (io), 137 HSDP (io), 138 GND hidden, 139 VDDUTMIC (power), 140 VBG (in), 141 PB8 (io), 142 PB9 (io), 143 VDDPLLUSB (power), 144 PB13 (io)

## ATSAME70Q21A-AN
designator *  value ATSAME70Q21A-AN
ki_keywords: 32-bit ARM Cortex-M7 MCU Microcontroller; ki_description: SAM E70 Microchip SMART ARM Cortex-M7-based MCU, 2048K Flash, 384K SRAM, LQFP144; ki_fp_filters: LQFP*20x20mm*P0.5mm*; Footprint: Package_QFP:LQFP-144_20x20mm_P0.5mm; Supplier: http://ww1.microchip.com/downloads/en/DeviceDoc/SAM-E70-S70-V70-V71-Family-Data-Sheet-DS60001527D.pdf
footprint LQFP-144_20x20mm_P0.5mm
pins: 1 PD0 (io), 2 PD31 (io), 3 VDDOUT (power), 4 PE0 (io), 5 VDDIN (power), 6 PE1 (io), 7 PE2 (io), 8 VREFN (io), 9 VREFP (in), 10 PE3 (io), 11 PC0 (io), 12 PC27 (io), 13 PC26 (io), 14 PC31 (io), 15 PC30 (io), 16 PC29 (io), 17 PC12 (io), 18 PC15 (io), 19 PC13 (io), 20 PB1 (io), 21 PB0 (io), 22 PA20 (io), 23 PA19 (io), 24 PA18 (io), 25 PA17 (io), 26 PB2 (io), 27 PE4 (io), 28 PE5 (io), 29 VDDCORE (power), 30 VDDIO (power), 31 PB3 (io), 32 PA21 (io), 33 VDDCORE hidden, 34 PD30 (io), 35 PA7 (io), 36 PA8 (io), 37 PA22 (io), 38 PC1 (io), 39 PC2 (io), 40 PC3 (io), 41 PC4 (io), 42 PA13 (io), 43 VDDIO hidden, 44 GND (power), 45 PA16 (io), 46 PA23 (io), 47 PD27 (io), 48 PC7 (io), 49 PA15 (io), 50 VDDCORE hidden, 51 PA14 (io), 52 PD25 (io), 53 PD26 (io), 54 PC6 (io), 55 PD24 (io), 56 PA24 (io), 57 PD23 (io), 58 PC5 (io), 59 PA25 (io), 60 PD22 (io), 61 GND hidden, 62 PA26 (io), 63 PD21 (io), 64 PA11 (io), 65 PD20 (io), 66 PA10 (io), 67 PD19 (io), 68 PA12 (io), 69 PD18 (io), 70 PA27 (io), 71 PD28 (io), 72 VDDIO hidden, 73 PA5 (io), 74 PD17 (io), 75 PA9 (io), 76 PC28 (io), 77 PA4 (io), 78 PD16 (io), 79 PB6 (io), 80 VDDIO hidden, 81 VDDCORE hidden, 82 PC8 (io), 83 NRST (io), 84 PD14 (io), 85 TST (in), 86 PC9 (io), 87 PB12 (io), 88 PD13 (io), 89 PB7 (io), 90 PC10 (io), 91 PA3 (io), 92 PD12 (io), 93 PA2 (io), 94 PC11 (io), 95 GND hidden, 96 VDDIO hidden, 97 PC14 (io), 98 PD11 (io), 99 PA1 (io), 100 PC16 (io), 101 PD10 (io), 102 PA0 (io), 103 PC17 (io), 104 JTAGSEL (in), 105 PB4 (io), 106 PD15 (io), 107 VDDCORE hidden, 108 PD29 (io), 109 PB5 (io), 110 PD9 (io), 111 PC18 (io), 112 PA28 (io), 113 PD8 (io), 114 PA6 (io), 115 GND hidden, 116 PA30 (io), 117 PC19 (io), 118 PA31 (io), 119 PD7 (io), 120 PC20 (io), 121 PD6 (io), 122 PC21 (io), 123 VDDPLL (power), 124 PC22 (io), 125 PD5 (io), 126 PD4 (io), 127 PC23 (io), 128 PD3 (io), 129 PA29 (io), 130 PC24 (io), 131 PD2 (io), 132 PD1 (io), 133 PC25 (io), 134 VDDUTMII (power), 135 GND hidden, 136 HSDM (io), 137 HSDP (io), 138 GND hidden, 139 VDDUTMIC (power), 140 VBG (in), 141 PB8 (io), 142 PB9 (io), 143 VDDPLLUSB (power), 144 PB13 (io)